# Altium schematic symbol library Misc.SchLib: 8 symbols
Pins are listed as number, name and electrical type; pins without a type are passive.

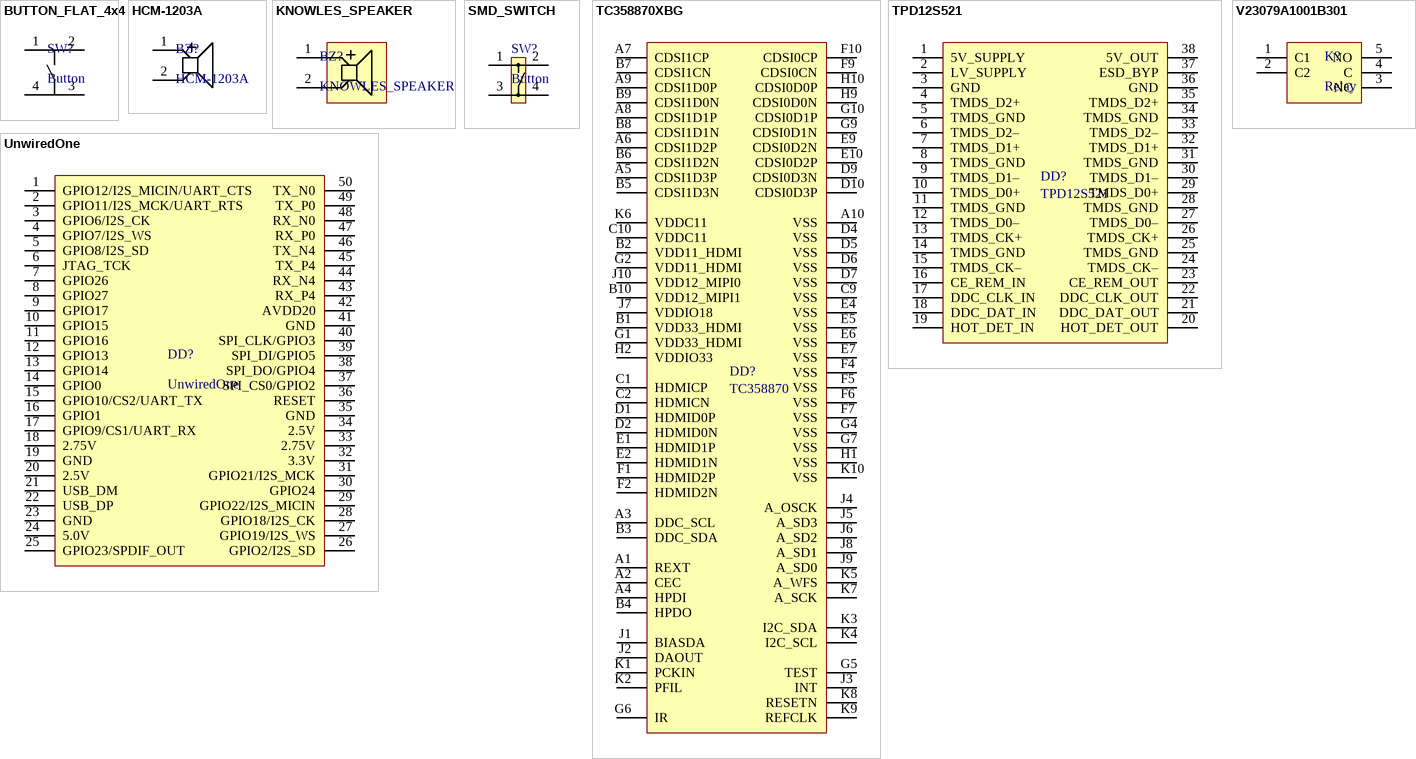
[diagram p0: symbols BUTTON_FLAT_4x4 to V23079A1001B301]

## BUTTON_FLAT_4x4
designator SW?, comment Button
Ultraflat button 4x4mm
footprint BUTTON_FLAT_4x4
pins: 1, 2, 3, 4

## HCM-1203A
designator BZ?
HCM-1203A buzzer
footprint HCM-1203A (Buzzer)
pins: 1, 2

## KNOWLES_SPEAKER
designator BZ?
KNOWLES_SPEAKER 2403-260-00031
footprint KNOWLES_SPEAKER (2403 260 00031)
pins: 1, 2

## SMD_SWITCH
designator SW?, comment Button
footprint SMD_SWITCH
pins: 1 RST, 2 RST, 3 RST, 4 RST

## TC358870XBG
designator DD?, comment TC358870
HDMI to two MIPI splitter
footprint VFBGA-80, 0.65mm (BGA, 80-Leads, Body 7x7mmx0,75mm, Pitch 0,65mm)
pins: A1 REXT, A2 CEC, A3 DDC_SCL, A4 HPDI, A5 CDSI1D3P, A6 CDSI1D2P, A7 CDSI1CP, A8 CDSI1D1P, A9 CDSI1D0P, A10 VSS, B1 VDD33_HDMI, B2 VDD11_HDMI, B3 DDC_SDA, B4 HPDO, B5 CDSI1D3N, B6 CDSI1D2N, B7 CDSI1CN, B8 CDSI1D1N, B9 CDSI1D0N, B10 VDD12_MIPI1, C1 HDMICP, C2 HDMICN, C9 VSS, C10 VDDC11, D1 HDMID0P, D2 HDMID0N, D4 VSS, D5 VSS, D6 VSS, D7 VSS, D9 CDSI0D3N, D10 CDSI0D3P, E1 HDMID1P, E2 HDMID1N, E4 VSS, E5 VSS, E6 VSS, E7 VSS, E9 CDSI0D2N, E10 CDSI0D2P, F1 HDMID2P, F2 HDMID2N, F4 VSS, F5 VSS, F6 VSS, F7 VSS, F9 CDSI0CN, F10 CDSI0CP, G1 VDD33_HDMI, G2 VDD11_HDMI, G4 VSS, G5 TEST, G6 IR, G7 VSS, G9 CDSI0D1N, G10 CDSI0D1P, H1 VSS, H2 VDDIO33, H9 CDSI0D0N, H10 CDSI0D0P, J1 BIASDA, J2 DAOUT, J3 INT, J4 A_OSCK, J5 A_SD3, J6 A_SD2, J7 VDDIO18, J8 A_SD1, J9 A_SD0, J10 VDD12_MIPI0, K1 PCKIN, K2 PFIL, K3 I2C_SDA, K4 I2C_SCL, K5 A_WFS, K6 VDDC11, K7 A_SCK, K8 RESETN, K9 REFCLK, K10 VSS

## TPD12S521
designator DD?
HDMI ESD protection device
footprint TSSOP-38 (TSSOP, 38-Leads, Body 9,70x4,40mm, Pitch 0,50mm)
pins: 1 5V_SUPPLY, 2 LV_SUPPLY, 3 GND, 4 TMDS_D2+, 5 TMDS_GND, 6 TMDS_D2–, 7 TMDS_D1+, 8 TMDS_GND, 9 TMDS_D1–, 10 TMDS_D0+, 11 TMDS_GND, 12 TMDS_D0–, 13 TMDS_CK+, 14 TMDS_GND, 15 TMDS_CK–, 16 CE_REM_IN, 17 DDC_CLK_IN, 18 DDC_DAT_IN, 19 HOT_DET_IN, 20 HOT_DET_OUT, 21 DDC_DAT_OUT, 22 DDC_CLK_OUT, 23 CE_REM_OUT, 24 TMDS_CK–, 25 TMDS_GND, 26 TMDS_CK+, 27 TMDS_D0–, 28 TMDS_GND, 29 TMDS_D0+, 30 TMDS_D1–, 31 TMDS_GND, 32 TMDS_D1+, 33 TMDS_D2–, 34 TMDS_GND, 35 TMDS_D2+, 36 GND, 37 ESD_BYP, 38 5V_OUT

## UnwiredOne
designator DD?
UnwiredOne one-board computer with wi-fi
footprint UnwiredOne (UnwiredOne board)
pins: 1 GPIO12/I2S_MICIN/UART_CTS, 2 GPIO11/I2S_MCK/UART_RTS, 3 GPIO6/I2S_CK, 4 GPIO7/I2S_WS, 5 GPIO8/I2S_SD, 6 JTAG_TCK, 7 GPIO26, 8 GPIO27, 9 GPIO17, 10 GPIO15, 11 GPIO16, 12 GPIO13, 13 GPIO14, 14 GPIO0, 15 GPIO10/CS2/UART_TX, 16 GPIO1, 17 GPIO9/CS1/UART_RX, 18 2.75V, 19 GND, 20 2.5V, 21 USB_DM, 22 USB_DP, 23 GND, 24 5.0V, 25 GPIO23/SPDIF_OUT, 26 GPIO2/I2S_SD, 27 GPIO19/I2S_WS, 28 GPIO18/I2S_CK, 29 GPIO22/I2S_MICIN, 30 GPIO24, 31 GPIO21/I2S_MCK, 32 3.3V, 33 2.75V, 34 2.5V, 35 GND, 36 RESET, 37 SPI_CS0/GPIO2, 38 SPI_DO/GPIO4, 39 SPI_DI/GPIO5, 40 SPI_CLK/GPIO3, 41 GND, 42 AVDD20, 43 RX_P4, 44 RX_N4, 45 TX_P4, 46 TX_N4, 47 RX_P0, 48 RX_N0, 49 TX_P0, 50 TX_N0

## V23079A1001B301
designator K?, comment Relay
TYCO THT Relay 250V 2A
footprint TYCO THT Relay 250V 2A
pins: 1 C1, 2 C2, 3 NC (power), 4 C (power), 5 NO (power)